# EAGLE library part BQ4845 (library dawid)
bq4846 Real Time Clock
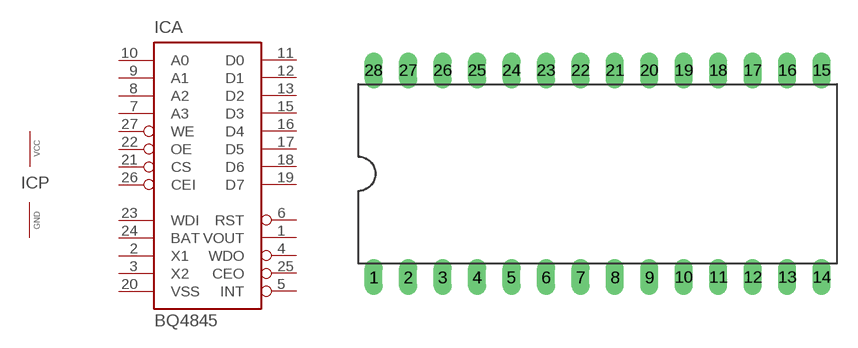
[diagram p0: symbol with the pads of DIL28-6; footprint DIL28-6]

Designator prefix IC; gates A=BQ4845 P=PWRN

## BQ4845DIL28-6  [DIL28-6]
1  A:VOUT  out
2  A:X1  in
3  A:X2  in
4  A:WDO  out
5  A:INT  out
6  A:RST  out
7  A:A3  in
8  A:A2  in
9  A:A1  in
10  A:A0  in
11  A:D0
12  A:D1
13  A:D2
14  P:GND  pwr
15  A:D3
16  A:D4
17  A:D5
18  A:D6
19  A:D7
20  A:VSS  pwr
21  A:CS  in
22  A:OE  in
23  A:WDI  in
24  A:BAT  pwr
25  A:CEO  out
26  A:CEI  in
27  A:WE  in
28  P:VCC  pwr

## Footprint DIL28-6 (pad centres in mm)
drill 0.813 long: 1 -16.51,-7.62; 2 -13.97,-7.62; 3 -11.43,-7.62; 4 -8.89,-7.62; 5 -6.35,-7.62; 6 -3.81,-7.62; 7 -1.27,-7.62; 8 1.27,-7.62; 9 3.81,-7.62; 10 6.35,-7.62; 11 8.89,-7.62; 12 11.43,-7.62; 13 13.97,-7.62; 14 16.51,-7.62; 15 16.51,7.62; 16 13.97,7.62; 17 11.43,7.62; 18 8.89,7.62; 19 6.35,7.62; 20 3.81,7.62; 21 1.27,7.62; 22 -1.27,7.62; 23 -3.81,7.62; 24 -6.35,7.62; 25 -8.89,7.62; 26 -11.43,7.62; 27 -13.97,7.62; 28 -16.51,7.62